# Altium integrated library Microchip I2C Serial EEPROM.IntLib: 1069 symbols (part 12 of 28)
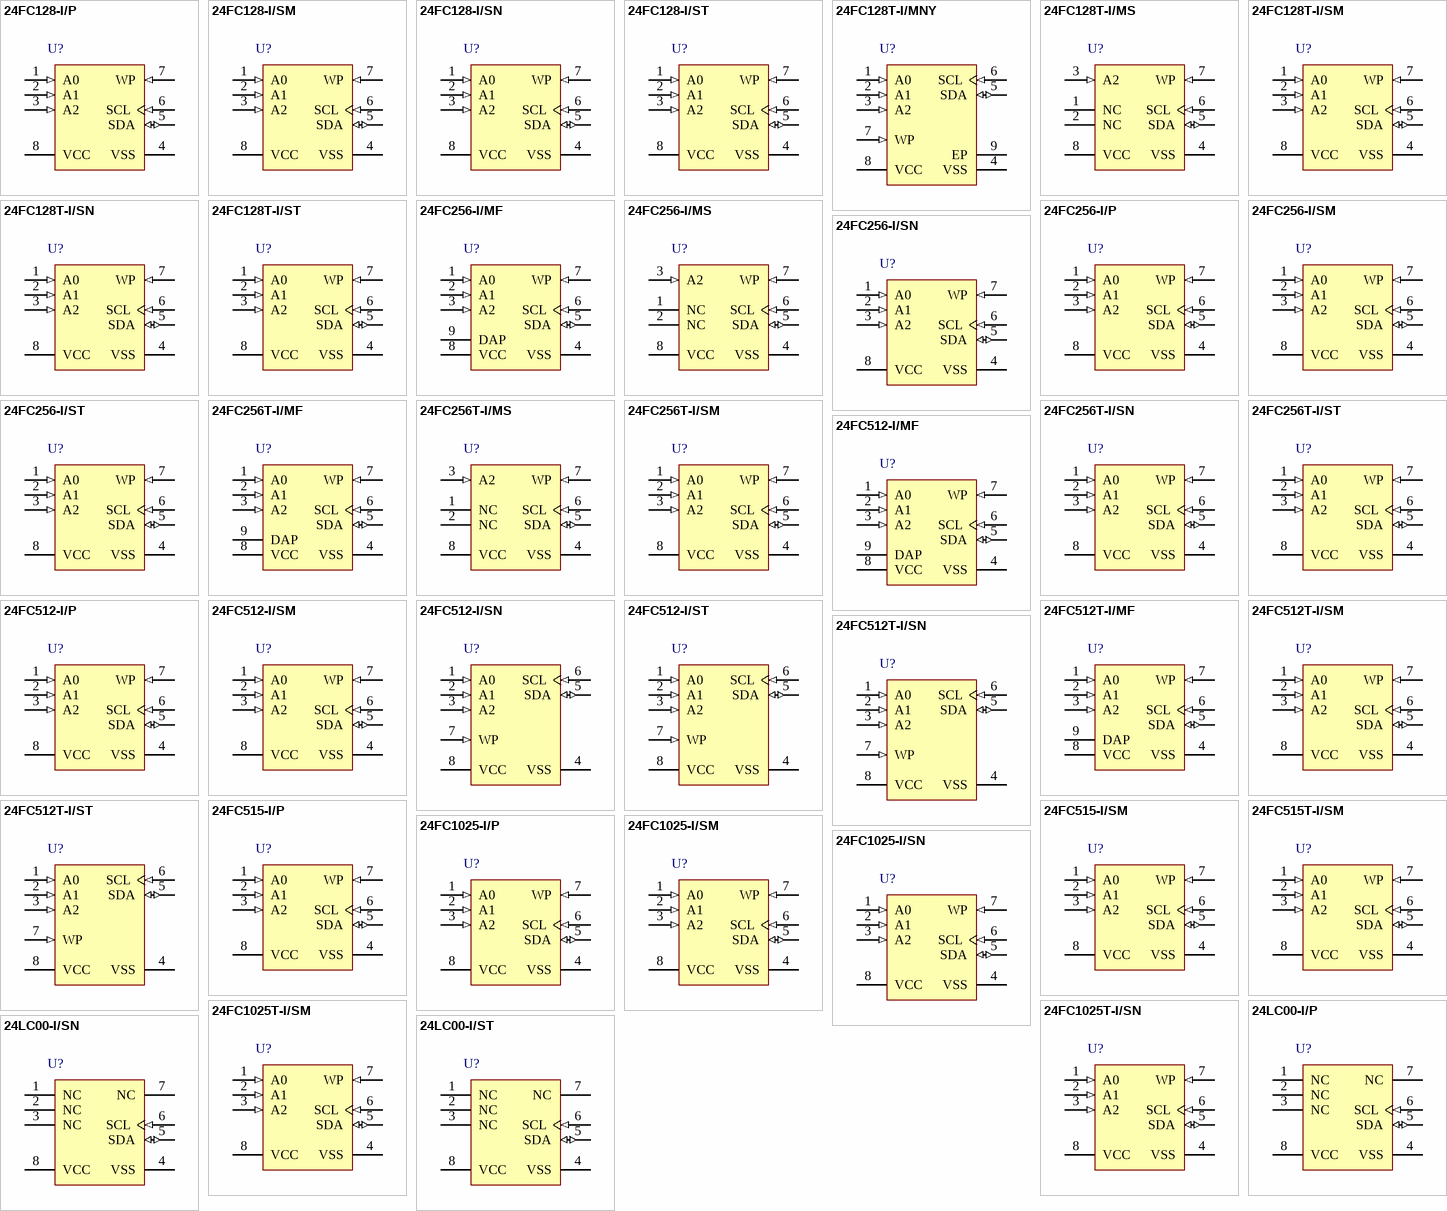
[diagram p37: symbols 24FC128-I/P to 24LC00-I/ST]

## 24FC512-I/SM
designator U?
512Kbit, 1MHz, 2.5V, I2C Serial EEPROM, 8-Pin SOIC 208mil, Industrial Temperature; Manufacturer: Microchip; PartNumber: 24FC512-I/SM; DatasheetVersion: revJ, Jul-2008; PackageVersion: revBB, Aug-2009; PackageReference: SOIJ-SM8; PackageDescription: 8-Lead Plastic Small Outline (SM) - Medium, 5.28 mm Body [SOIJ]; Supplier 1: Digi-Key; Supplier Part Number 1: 24FC512-I/SM-ND; Supplier 2: Newark; Supplier Part Number 2: 92C7013; Supplier 3: Mouser; Supplier Part Number 3: 579-24FC512-I/SM; Mounting Technology: Surface Mount; ComponentLink1Description: Manufacturer URL; ComponentLink1URL: http://www.microchip.com/; ComponentLink2Description: Datasheet; ComponentLink2URL: http://ww1.microchip.com/downloads/en/DeviceDoc/21754J.pdf; ComponentLink3Description: Package Specification; ComponentLink3URL: http://www.microchip.com/stellent/groups/techpub_sg/documents/packagingspec/en012702.pdf
footprint SOIJ-SM8_N (SOP, 8-Leads, Body 5.2x5.2mm, Pitch 1.27mm, IPC Medium Density)
footprint SOIJ-SM8_L (SOP, 8-Leads, Body 5.2x5.2mm, Pitch 1.27mm, IPC High Density)
footprint SOIJ-SM8_M (SOP, 8-Leads, Body 5.2x5.2mm, Pitch 1.27mm, IPC Low Density)
pins: 1 A0 (in), 2 A1 (in), 3 A2 (in), 4 VSS (power), 5 SDA (io), 6 SCL (in), 7 WP (in), 8 VCC (power)

## 24FC512-I/SN
designator U?
512K bits I2C™ Serial EEPROM, 1.7 to 5.5 V, 1 MHz, -40 to 85 degC, 8-pin SOIC (SN8), Tube; Manufacturer: Microchip; PartNumber: 24FC512-I/SN; DatasheetVersion: Rev. M; PackageVersion: C04-057C; PackageReference: SOIC-SN8; PackageDescription: 8-Lead Plastic Small Outline, 4.9 x 3.9 mm Body, 1.27 mm Pitch; Supplier 1: Digi-Key; Supplier Part Number 1: 24FC512-I/SN-ND; Supplier 2: Newark; Supplier Part Number 2: 08R2176; Supplier 3: Mouser; Supplier Part Number 3: 579-24FC512-I/SN; Mounting Technology: Surface Mount; ComponentLink1Description: Manufacturer URL; ComponentLink1URL: http://www.microchip.com; ComponentLink2Description: Datasheet; ComponentLink2URL: http://ww1.microchip.com/downloads/en/DeviceDoc/21754M.pdf; ComponentLink3Description: Package Specification; ComponentLink3URL: http://www.microchip.com/stellent/groups/techpub_sg/documents/packagingspec/en012702.pdf; ComponentLink4Description: Product URL; ComponentLink4URL: http://www.microchip.com/24FC512
footprint MCHP-SOIC-SN8_N (SOIC, 8-Leads, Body 4.9x3.9mm, Pitch 1.27mm, IPC Medium Density)
footprint MCHP-SOIC-SN8_L (SOIC, 8-Leads, Body 4.9x3.9mm, Pitch 1.27mm, IPC High Density)
footprint MCHP-SOIC-SN8_M (SOIC, 8-Leads, Body 4.9x3.9mm, Pitch 1.27mm, IPC Low Density)
pins: 1 A0 (in) "User Configured Chip Select", 2 A1 (in) "User Configured Chip Select", 3 A2 (in) "User Configured Chip Select", 4 VSS (power) "Ground", 5 SDA (io) "Serial Data", 6 SCL (in) "Serial Clock", 7 WP (in) "Write-Protect Input", 8 VCC (power) "+1.7V to 5.5V"

## 24FC512-I/ST
designator U?
512K bits I2C™ Serial EEPROM, 1.7 to 5.5 V, 1 MHz, -40 to 85 degC, 8-pin TSSOP (ST8), Tube; Manufacturer: Microchip; PartNumber: 24FC512-I/ST; DatasheetVersion: Rev. M; PackageVersion: C04-086B; PackageReference: TSSOP-ST8; PackageDescription: 8-Lead Plastic Thin Shrink Small Outline, 3 x 4.4 mm Body, 0.65 mm Pitch; Supplier 1: Digi-Key; Supplier Part Number 1: 24FC512-I/ST-ND; Supplier 2: Newark; Supplier Part Number 2: 08R2177; Supplier 3: Mouser; Supplier Part Number 3: 579-24FC512-I/ST; Mounting Technology: Surface Mount; ComponentLink1Description: Manufacturer URL; ComponentLink1URL: http://www.microchip.com; ComponentLink2Description: Datasheet; ComponentLink2URL: http://ww1.microchip.com/downloads/en/DeviceDoc/21754M.pdf; ComponentLink3Description: Package Specification; ComponentLink3URL: http://www.microchip.com/stellent/groups/techpub_sg/documents/packagingspec/en012702.pdf; ComponentLink4Description: Product URL; ComponentLink4URL: http://www.microchip.com/24FC512
footprint MCHP-TSSOP-ST8_N (SOP, 8-Leads, Body 4.4x3mm, Pitch 0.65mm, IPC Medium Density)
footprint MCHP-TSSOP-ST8_L (SOP, 8-Leads, Body 4.4x3mm, Pitch 0.65mm, IPC High Density)
footprint MCHP-TSSOP-ST8_M (SOP, 8-Leads, Body 4.4x3mm, Pitch 0.65mm, IPC Low Density)
pins: 1 A0 (in) "User Configured Chip Select", 2 A1 (in) "User Configured Chip Select", 3 A2 (in) "User Configured Chip Select", 4 VSS (power) "Ground", 5 SDA (io) "Serial Data", 6 SCL (in) "Serial Clock", 7 WP (in) "Write-Protect Input", 8 VCC (power) "+1.7V to 5.5V"

## 24FC512T-I/MF
designator U?
512Kbit, 1MHz, 2.5V, I2C Serial EEPROM, 8-Pin DFN, Industrial Temperature, Tape and Reel; Manufacturer: Microchip; PartNumber: 24FC512T-I/MF; DatasheetVersion: revJ, Jul-2008; PackageVersion: revBB, Aug-2009; PackageReference: DFNS-MF8; PackageDescription: 8-Lead Plastic Dual Flat, No Lead Package (MF) - 6x5 mm Body [DFN-S]; Supplier 1: Digi-Key; Supplier Part Number 1: 24FC512T-I/MF-ND; Supplier 2: Newark; Supplier Part Number 2: 03H7529; Supplier 3: Mouser; Supplier Part Number 3: 579-24FC512T-I/MF; Mounting Technology: Surface Mount; ComponentLink1Description: Manufacturer URL; ComponentLink1URL: http://www.microchip.com/; ComponentLink2Description: Datasheet; ComponentLink2URL: http://ww1.microchip.com/downloads/en/DeviceDoc/21754J.pdf; ComponentLink3Description: Package Specification; ComponentLink3URL: http://www.microchip.com/stellent/groups/techpub_sg/documents/packagingspec/en012702.pdf
footprint DFNS-MF8 (SON, 8-Leads, Body 5x6mm, Pitch 1.27mm, Microchip Recommended)
pins: 1 A0 (in), 2 A1 (in), 3 A2 (in), 4 VSS (power), 5 SDA (io), 6 SCL (in), 7 WP (in), 8 VCC (power), 9 DAP (power)

## 24FC512T-I/SM
designator U?
512Kbit, 1MHz, 2.5V, I2C Serial EEPROM, 8-Pin SOIC 208mil, Industrial Temperature, Tape and Reel; Manufacturer: Microchip; PartNumber: 24FC512T-I/SM; DatasheetVersion: revJ, Jul-2008; PackageVersion: revBB, Aug-2009; PackageReference: SOIJ-SM8; PackageDescription: 8-Lead Plastic Small Outline (SM) - Medium, 5.28 mm Body [SOIJ]; Supplier 1: Digi-Key; Supplier Part Number 1: 24FC512T-I/SM-ND; Supplier 2: Mouser; Supplier Part Number 2: 579-24FC512T-I/SM; Mounting Technology: Surface Mount; ComponentLink1Description: Manufacturer URL; ComponentLink1URL: http://www.microchip.com/; ComponentLink2Description: Datasheet; ComponentLink2URL: http://ww1.microchip.com/downloads/en/DeviceDoc/21754J.pdf; ComponentLink3Description: Package Specification; ComponentLink3URL: http://www.microchip.com/stellent/groups/techpub_sg/documents/packagingspec/en012702.pdf
footprint SOIJ-SM8_N (SOP, 8-Leads, Body 5.2x5.2mm, Pitch 1.27mm, IPC Medium Density)
footprint SOIJ-SM8_L (SOP, 8-Leads, Body 5.2x5.2mm, Pitch 1.27mm, IPC High Density)
footprint SOIJ-SM8_M (SOP, 8-Leads, Body 5.2x5.2mm, Pitch 1.27mm, IPC Low Density)
pins: 1 A0 (in), 2 A1 (in), 3 A2 (in), 4 VSS (power), 5 SDA (io), 6 SCL (in), 7 WP (in), 8 VCC (power)

## 24FC512T-I/SN
designator U?
512K bits I2C™ Serial EEPROM, 1.7 to 5.5 V, 1 MHz, -40 to 85 degC, 8-pin SOIC (SN8), Tape and Reel; Manufacturer: Microchip; PartNumber: 24FC512T-I/SN; DatasheetVersion: Rev. M; PackageVersion: C04-057C; PackageReference: SOIC-SN8; PackageDescription: 8-Lead Plastic Small Outline, 4.9 x 3.9 mm Body, 1.27 mm Pitch; Supplier 1: Digi-Key; Supplier Part Number 1: 24FC512T-I/SN-ND; Supplier 2: Mouser; Supplier Part Number 2: 579-24FC512T-I/SN; Mounting Technology: Surface Mount; ComponentLink1Description: Manufacturer URL; ComponentLink1URL: http://www.microchip.com; ComponentLink2Description: Datasheet; ComponentLink2URL: http://ww1.microchip.com/downloads/en/DeviceDoc/21754M.pdf; ComponentLink3Description: Package Specification; ComponentLink3URL: http://www.microchip.com/stellent/groups/techpub_sg/documents/packagingspec/en012702.pdf; ComponentLink4Description: Product URL; ComponentLink4URL: http://www.microchip.com/24FC512
footprint MCHP-SOIC-SN8_N (SOIC, 8-Leads, Body 4.9x3.9mm, Pitch 1.27mm, IPC Medium Density)
footprint MCHP-SOIC-SN8_L (SOIC, 8-Leads, Body 4.9x3.9mm, Pitch 1.27mm, IPC High Density)
footprint MCHP-SOIC-SN8_M (SOIC, 8-Leads, Body 4.9x3.9mm, Pitch 1.27mm, IPC Low Density)
pins: 1 A0 (in) "User Configured Chip Select", 2 A1 (in) "User Configured Chip Select", 3 A2 (in) "User Configured Chip Select", 4 VSS (power) "Ground", 5 SDA (io) "Serial Data", 6 SCL (in) "Serial Clock", 7 WP (in) "Write-Protect Input", 8 VCC (power) "+1.7V to 5.5V"

## 24FC512T-I/ST
designator U?
512K bits I2C™ Serial EEPROM, 1.7 to 5.5 V, 1 MHz, -40 to 85 degC, 8-pin TSSOP (ST8), Tape and Reel; Manufacturer: Microchip; PartNumber: 24FC512T-I/ST; DatasheetVersion: Rev. M; PackageVersion: C04-086B; PackageReference: TSSOP-ST8; PackageDescription: 8-Lead Plastic Thin Shrink Small Outline, 3 x 4.4 mm Body, 0.65 mm Pitch; Supplier 1: Digi-Key; Supplier Part Number 1: 24FC512T-I/ST-ND; Supplier 2: Mouser; Supplier Part Number 2: 579-24FC512T-I/ST; Mounting Technology: Surface Mount; ComponentLink1Description: Manufacturer URL; ComponentLink1URL: http://www.microchip.com; ComponentLink2Description: Datasheet; ComponentLink2URL: http://ww1.microchip.com/downloads/en/DeviceDoc/21754M.pdf; ComponentLink3Description: Package Specification; ComponentLink3URL: http://www.microchip.com/stellent/groups/techpub_sg/documents/packagingspec/en012702.pdf; ComponentLink4Description: Product URL; ComponentLink4URL: http://www.microchip.com/24FC512
footprint MCHP-TSSOP-ST8_N (SOP, 8-Leads, Body 4.4x3mm, Pitch 0.65mm, IPC Medium Density)
footprint MCHP-TSSOP-ST8_L (SOP, 8-Leads, Body 4.4x3mm, Pitch 0.65mm, IPC High Density)
footprint MCHP-TSSOP-ST8_M (SOP, 8-Leads, Body 4.4x3mm, Pitch 0.65mm, IPC Low Density)
pins: 1 A0 (in) "User Configured Chip Select", 2 A1 (in) "User Configured Chip Select", 3 A2 (in) "User Configured Chip Select", 4 VSS (power) "Ground", 5 SDA (io) "Serial Data", 6 SCL (in) "Serial Clock", 7 WP (in) "Write-Protect Input", 8 VCC (power) "+1.7V to 5.5V"

## 24FC515-I/P
designator U?
512Kbit, 1MHz, 2.5V, I2C Serial EEPROM, 8-Pin PDIP, Industrial Temperature; Manufacturer: Microchip; PartNumber: 24FC515-I/P; DatasheetVersion: revG, Jul-2008; PackageVersion: revBB, Aug-2009; PackageReference: PDIP300-P8; PackageDescription: 8-Lead Plastic Dual In-Line (P) - 300 mil Body [PDIP]; Supplier 1: Digi-Key; Supplier Part Number 1: 24FC515-I/P-ND; Supplier 2: Newark; Supplier Part Number 2: 69K7666; Supplier 3: Mouser; Supplier Part Number 3: 579-24FC515-I/P; Mounting Technology: Through Hole; Code_JEDEC: MS-001; ComponentLink1Description: Manufacturer URL; ComponentLink1URL: http://www.microchip.com/; ComponentLink2Description: Datasheet; ComponentLink2URL: http://ww1.microchip.com/downloads/en/DeviceDoc/21673G.pdf; ComponentLink3Description: Package Specification; ComponentLink3URL: http://www.microchip.com/stellent/groups/techpub_sg/documents/packagingspec/en012702.pdf
footprint PDIP300-P8 (DIP, 8-Leads, Row Spacing 7.62mm, Pitch 2.54mm, Body 9.5x6.6mm)
pins: 1 A0 (in), 2 A1 (in), 3 A2 (in), 4 VSS (power), 5 SDA (io), 6 SCL (in), 7 WP (in), 8 VCC (power)

## 24FC515-I/SM
designator U?
512Kbit, 1MHz, 2.5V, I2C Serial EEPROM, 8-Pin SOIC 208mil, Industrial Temperature; Manufacturer: Microchip; PartNumber: 24FC515-I/SM; DatasheetVersion: revG, Jul-2008; PackageVersion: revBB, Aug-2009; PackageReference: SOIJ-SM8; PackageDescription: 8-Lead Plastic Small Outline (SM) - Medium, 5.28 mm Body [SOIJ]; Supplier 1: Digi-Key; Supplier Part Number 1: 24FC515-I/SM-ND; Supplier 2: Newark; Supplier Part Number 2: 92C7019; Supplier 3: Mouser; Supplier Part Number 3: 579-24FC515-I/SM; Mounting Technology: Surface Mount; ComponentLink1Description: Manufacturer URL; ComponentLink1URL: http://www.microchip.com/; ComponentLink2Description: Datasheet; ComponentLink2URL: http://ww1.microchip.com/downloads/en/DeviceDoc/21673G.pdf; ComponentLink3Description: Package Specification; ComponentLink3URL: http://www.microchip.com/stellent/groups/techpub_sg/documents/packagingspec/en012702.pdf
footprint SOIJ-SM8_N (SOP, 8-Leads, Body 5.2x5.2mm, Pitch 1.27mm, IPC Medium Density)
footprint SOIJ-SM8_L (SOP, 8-Leads, Body 5.2x5.2mm, Pitch 1.27mm, IPC High Density)
footprint SOIJ-SM8_M (SOP, 8-Leads, Body 5.2x5.2mm, Pitch 1.27mm, IPC Low Density)
pins: 1 A0 (in), 2 A1 (in), 3 A2 (in), 4 VSS (power), 5 SDA (io), 6 SCL (in), 7 WP (in), 8 VCC (power)

## 24FC515T-I/SM
designator U?
512Kbit, 1MHz, 2.5V, I2C Serial EEPROM, 8-Pin SOIC 208mil, Industrial Temperature, Tape and Reel; Manufacturer: Microchip; PartNumber: 24FC515T-I/SM; DatasheetVersion: revG, Jul-2008; PackageVersion: revBB, Aug-2009; PackageReference: SOIJ-SM8; PackageDescription: 8-Lead Plastic Small Outline (SM) - Medium, 5.28 mm Body [SOIJ]; Supplier 1: Digi-Key; Supplier Part Number 1: 24FC515T-I/SM-ND; Supplier 2: Mouser; Supplier Part Number 2: 579-24FC515T-I/SM; Mounting Technology: Surface Mount; ComponentLink1Description: Manufacturer URL; ComponentLink1URL: http://www.microchip.com/; ComponentLink2Description: Datasheet; ComponentLink2URL: http://ww1.microchip.com/downloads/en/DeviceDoc/21673G.pdf; ComponentLink3Description: Package Specification; ComponentLink3URL: http://www.microchip.com/stellent/groups/techpub_sg/documents/packagingspec/en012702.pdf
footprint SOIJ-SM8_N (SOP, 8-Leads, Body 5.2x5.2mm, Pitch 1.27mm, IPC Medium Density)
footprint SOIJ-SM8_L (SOP, 8-Leads, Body 5.2x5.2mm, Pitch 1.27mm, IPC High Density)
footprint SOIJ-SM8_M (SOP, 8-Leads, Body 5.2x5.2mm, Pitch 1.27mm, IPC Low Density)
pins: 1 A0 (in), 2 A1 (in), 3 A2 (in), 4 VSS (power), 5 SDA (io), 6 SCL (in), 7 WP (in), 8 VCC (power)

## 24FC1025-I/P
designator U?
1 Mbit, 1MHz, 2.5V, I2C Serial EEPROM, 8-Pin PDIP, Industrial Temperature; Manufacturer: Microchip; PartNumber: 24FC1025-I/P; DatasheetVersion: revF, Oct-2008; PackageVersion: revBB, Aug-2009; PackageReference: PDIP300-P8; PackageDescription: 8-Lead Plastic Dual In-Line (P) - 300 mil Body [PDIP]; Supplier 1: Digi-Key; Supplier Part Number 1: 24FC1025-I/P-ND; Supplier 2: Newark; Supplier Part Number 2: 56K7664; Supplier 3: Mouser; Supplier Part Number 3: 579-24FC1025-I/P; Mounting Technology: Through Hole; Code_JEDEC: MS-001; ComponentLink1Description: Manufacturer URL; ComponentLink1URL: http://www.microchip.com/; ComponentLink2Description: Datasheet; ComponentLink2URL: http://ww1.microchip.com/downloads/en/DeviceDoc/21941F.pdf; ComponentLink3Description: Package Specification; ComponentLink3URL: http://www.microchip.com/stellent/groups/techpub_sg/documents/packagingspec/en012702.pdf
footprint PDIP300-P8 (DIP, 8-Leads, Row Spacing 7.62mm, Pitch 2.54mm, Body 9.5x6.6mm)
pins: 1 A0 (in), 2 A1 (in), 3 A2 (in), 4 VSS (power), 5 SDA (io), 6 SCL (in), 7 WP (in), 8 VCC (power)

## 24FC1025-I/SM
designator U?
1 Mbit, 1MHz, 2.5V, I2C Serial EEPROM, 8-Pin SOIC 208mil, Industrial Temperature; Manufacturer: Microchip; PartNumber: 24FC1025-I/SM; DatasheetVersion: revF, Oct-2008; PackageVersion: revBB, Aug-2009; PackageReference: SOIJ-SM8; PackageDescription: 8-Lead Plastic Small Outline (SM) - Medium, 5.28 mm Body [SOIJ]; Supplier 1: Digi-Key; Supplier Part Number 1: 24FC1025-I/SM-ND; Supplier 2: Farnell; Supplier Part Number 2: 1296568; Supplier 3: Newark; Supplier Part Number 3: 56K7665; Supplier 4: Mouser; Supplier Part Number 4: 579-24FC1025-I/SM; Mounting Technology: Surface Mount; ComponentLink1Description: Manufacturer URL; ComponentLink1URL: http://www.microchip.com/; ComponentLink2Description: Datasheet; ComponentLink2URL: http://ww1.microchip.com/downloads/en/DeviceDoc/21941F.pdf; ComponentLink3Description: Package Specification; ComponentLink3URL: http://www.microchip.com/stellent/groups/techpub_sg/documents/packagingspec/en012702.pdf
footprint SOIJ-SM8_N (SOP, 8-Leads, Body 5.2x5.2mm, Pitch 1.27mm, IPC Medium Density)
footprint SOIJ-SM8_L (SOP, 8-Leads, Body 5.2x5.2mm, Pitch 1.27mm, IPC High Density)
footprint SOIJ-SM8_M (SOP, 8-Leads, Body 5.2x5.2mm, Pitch 1.27mm, IPC Low Density)
pins: 1 A0 (in), 2 A1 (in), 3 A2 (in), 4 VSS (power), 5 SDA (io), 6 SCL (in), 7 WP (in), 8 VCC (power)

## 24FC1025-I/SN
designator U?
1 Mbit, 1MHz, 2.5V, 8-Pin SOIC 150mil, Industrial Temperature; Manufacturer: Microchip; PartNumber: 24FC1025-I/SN; DatasheetVersion: revF, Oct-2008; PackageVersion: revBB, Aug-2009; PackageReference: SOIC-SN8; PackageDescription: 8-Lead Plastic Small Outline (SN) - Narrow, 3.90mm Body [SOIC]; Supplier 1: Digi-Key; Supplier Part Number 1: 24FC1025-I/SN-ND; Supplier 2: Newark; Supplier Part Number 2: 26R1320; Supplier 3: Mouser; Supplier Part Number 3: 579-24FC1025-I/SN; Mounting Technology: Surface Mount; Code_JEDEC: MS-012; Code_IPC: SOIC127P600-8; ComponentLink1Description: Manufacturer URL; ComponentLink1URL: http://www.microchip.com/; ComponentLink2Description: Datasheet; ComponentLink2URL: http://ww1.microchip.com/downloads/en/DeviceDoc/21941F.pdf; ComponentLink3Description: Package Specification; ComponentLink3URL: http://www.microchip.com/stellent/groups/techpub_sg/documents/packagingspec/en012702.pdf
footprint SOIC-SN8_N (SOIC, 8-Leads, Body 4.9x3.8mm, Pitch 1.27mm, IPC Medium Density)
footprint SOIC-SN8_L (SOIC, 8-Leads, Body 4.9x3.8mm, Pitch 1.27mm, IPC High Density)
footprint SOIC-SN8_M (SOIC, 8-Leads, Body 4.9x3.8mm, Pitch 1.27mm, IPC Low Density)
pins: 1 A0 (in), 2 A1 (in), 3 A2 (in), 4 VSS (power), 5 SDA (io), 6 SCL (in), 7 WP (in), 8 VCC (power)

## 24FC1025T-I/SM
designator U?
1 Mbit, 1MHz, 2.5V, I2C Serial EEPROM, 8-Pin SOIC 208mil, Industrial Temperature, Tape and Reel; Manufacturer: Microchip; PartNumber: 24FC1025T-I/SM; DatasheetVersion: revF, Oct-2008; PackageVersion: revBB, Aug-2009; PackageReference: SOIJ-SM8; PackageDescription: 8-Lead Plastic Small Outline (SM) - Medium, 5.28 mm Body [SOIJ]; Supplier 1: Digi-Key; Supplier Part Number 1: 24FC1025T-I/SMTR-ND; Supplier 2: Digi-Key; Supplier Part Number 2: 24FC1025T-I/SMCT-ND; Supplier 3: Digi-Key; Supplier Part Number 3: 24FC1025T-I/SMDKR-ND; Supplier 4: Newark; Supplier Part Number 4: 56K7666; Supplier 5: Mouser; Supplier Part Number 5: 579-24FC1025T-I/SM; Mounting Technology: Surface Mount; ComponentLink1Description: Manufacturer URL; ComponentLink1URL: http://www.microchip.com/; ComponentLink2Description: Datasheet; ComponentLink2URL: http://ww1.microchip.com/downloads/en/DeviceDoc/21941F.pdf; ComponentLink3Description: Package Specification; ComponentLink3URL: http://www.microchip.com/stellent/groups/techpub_sg/documents/packagingspec/en012702.pdf
footprint SOIJ-SM8_N (SOP, 8-Leads, Body 5.2x5.2mm, Pitch 1.27mm, IPC Medium Density)
footprint SOIJ-SM8_L (SOP, 8-Leads, Body 5.2x5.2mm, Pitch 1.27mm, IPC High Density)
footprint SOIJ-SM8_M (SOP, 8-Leads, Body 5.2x5.2mm, Pitch 1.27mm, IPC Low Density)
pins: 1 A0 (in), 2 A1 (in), 3 A2 (in), 4 VSS (power), 5 SDA (io), 6 SCL (in), 7 WP (in), 8 VCC (power)

## 24FC1025T-I/SN
designator U?
1 Mbit, 1MHz, 2.5V, 8-Pin SOIC 150mil, Industrial Temperature, Tape and Reel; Manufacturer: Microchip; PartNumber: 24FC1025T-I/SN; DatasheetVersion: revF, Oct-2008; PackageVersion: revBB, Aug-2009; PackageReference: SOIC-SN8; PackageDescription: 8-Lead Plastic Small Outline (SN) - Narrow, 3.90mm Body [SOIC]; Supplier 1: Digi-Key; Supplier Part Number 1: 24FC1025T-I/SNTR-ND; Supplier 2: Digi-Key; Supplier Part Number 2: 24FC1025T-I/SNCT-ND; Supplier 3: Digi-Key; Supplier Part Number 3: 24FC1025T-I/SNDKR-ND; Supplier 4: Newark; Supplier Part Number 4: 26R1321; Supplier 5: Mouser; Supplier Part Number 5: 579-24FC1025T-I/SN; Mounting Technology: Surface Mount; Code_JEDEC: MS-012; Code_IPC: SOIC127P600-8; ComponentLink1Description: Manufacturer URL; ComponentLink1URL: http://www.microchip.com/; ComponentLink2Description: Datasheet; ComponentLink2URL: http://ww1.microchip.com/downloads/en/DeviceDoc/21941F.pdf; ComponentLink3Description: Package Specification; ComponentLink3URL: http://www.microchip.com/stellent/groups/techpub_sg/documents/packagingspec/en012702.pdf
footprint SOIC-SN8_N (SOIC, 8-Leads, Body 4.9x3.8mm, Pitch 1.27mm, IPC Medium Density)
footprint SOIC-SN8_L (SOIC, 8-Leads, Body 4.9x3.8mm, Pitch 1.27mm, IPC High Density)
footprint SOIC-SN8_M (SOIC, 8-Leads, Body 4.9x3.8mm, Pitch 1.27mm, IPC Low Density)
pins: 1 A0 (in), 2 A1 (in), 3 A2 (in), 4 VSS (power), 5 SDA (io), 6 SCL (in), 7 WP (in), 8 VCC (power)

## 24LC00-I/P
designator U?
128-Bit, 400kHz, 2.5V, I2C Bus Serial EEPROM, 8-Pin PDIP, Industrial Temperature; Manufacturer: Microchip; PartNumber: 24LC00-I/P; DatasheetVersion: revG, Mar-2007; PackageVersion: revBB, Aug-2009; PackageReference: PDIP300-P8; PackageDescription: 8-Lead Plastic Dual In-Line (P) - 300 mil Body [PDIP]; Supplier 1: Digi-Key; Supplier Part Number 1: 24LC00-I/P-ND; Supplier 2: Farnell; Supplier Part Number 2: 1331308; Supplier 3: Newark; Supplier Part Number 3: 35M0723; Supplier 4: Newark; Supplier Part Number 4: 12C1983; Supplier 5: Mouser; Supplier Part Number 5: 579-24LC00-I/P; Mounting Technology: Through Hole; Code_JEDEC: MS-001; ComponentLink1Description: Manufacturer URL; ComponentLink1URL: http://www.microchip.com/; ComponentLink2Description: Datasheet; ComponentLink2URL: http://ww1.microchip.com/downloads/en/DeviceDoc/21178G.pdf; ComponentLink3Description: Package Specification; ComponentLink3URL: http://www.microchip.com/stellent/groups/techpub_sg/documents/packagingspec/en012702.pdf
footprint PDIP300-P8 (DIP, 8-Leads, Row Spacing 7.62mm, Pitch 2.54mm, Body 9.5x6.6mm)
pins: 1 NC, 2 NC, 3 NC, 4 VSS (power), 5 SDA (io), 6 SCL (in), 7 NC, 8 VCC (power)

## 24LC00-I/SN
designator U?
128-Bit, 400kHz, 2.5V, I2C Bus Serial EEPROM, 8-Pin SOIC 150mil, Industrial Temperature; Manufacturer: Microchip; PartNumber: 24LC00-I/SN; DatasheetVersion: revG, Mar-2007; PackageVersion: revBB, Aug-2009; PackageReference: SOIC-SN8; PackageDescription: 8-Lead Plastic Small Outline (SN) - Narrow, 3.90mm Body [SOIC]; Supplier 1: Digi-Key; Supplier Part Number 1: 24LC00-I/SN-ND; Supplier 2: Newark; Supplier Part Number 2: 92C7063; Supplier 3: Mouser; Supplier Part Number 3: 579-24LC00-I/SN; Mounting Technology: Surface Mount; Code_JEDEC: MS-012; Code_IPC: SOIC127P600-8; ComponentLink1Description: Manufacturer URL; ComponentLink1URL: http://www.microchip.com/; ComponentLink2Description: Datasheet; ComponentLink2URL: http://ww1.microchip.com/downloads/en/DeviceDoc/21178G.pdf; ComponentLink3Description: Package Specification; ComponentLink3URL: http://www.microchip.com/stellent/groups/techpub_sg/documents/packagingspec/en012702.pdf
footprint SOIC-SN8_N (SOIC, 8-Leads, Body 4.9x3.8mm, Pitch 1.27mm, IPC Medium Density)
footprint SOIC-SN8_L (SOIC, 8-Leads, Body 4.9x3.8mm, Pitch 1.27mm, IPC High Density)
footprint SOIC-SN8_M (SOIC, 8-Leads, Body 4.9x3.8mm, Pitch 1.27mm, IPC Low Density)
pins: 1 NC, 2 NC, 3 NC, 4 VSS (power), 5 SDA (io), 6 SCL (in), 7 NC, 8 VCC (power)

## 24LC00-I/ST
designator U?
128-Bit, 400kHz, 2.5V, I2C Bus Serial EEPROM, 8-Pin TSSOP, Industrial Temperature; Manufacturer: Microchip; PartNumber: 24LC00-I/ST; DatasheetVersion: revG, Mar-2007; PackageVersion: revBB, Aug-2009; PackageReference: TSSOP-ST8; PackageDescription: 8-Lead Plastic Thin Shrink Small Outline (ST) - 4.4mm Body [TSSOP]; Supplier 1: Digi-Key; Supplier Part Number 1: 24LC00-I/ST-ND; Supplier 2: Newark; Supplier Part Number 2: 96K4067; Supplier 3: Mouser; Supplier Part Number 3: 579-24LC00-I/ST; Mounting Technology: Surface Mount; Code_JEDEC: MO-153; ComponentLink1Description: Manufacturer URL; ComponentLink1URL: http://www.microchip.com/; ComponentLink2Description: Datasheet; ComponentLink2URL: http://ww1.microchip.com/downloads/en/DeviceDoc/21178G.pdf; ComponentLink3Description: Package Specification; ComponentLink3URL: http://www.microchip.com/stellent/groups/techpub_sg/documents/packagingspec/en012702.pdf
footprint TSSOP-ST8_N (TSOP, 8-Leads, Body 3x4.4mm, Pitch 0.65mm, IPC Medium Density)
footprint TSSOP-ST8_L (TSOP, 8-Leads, Body 3x4.4mm, Pitch 0.65mm, IPC High Density)
footprint TSSOP-ST8_M (TSOP, 8-Leads, Body 3x4.4mm, Pitch 0.65mm, IPC Low Density)
pins: 1 NC, 2 NC, 3 NC, 4 VSS (power), 5 SDA (io), 6 SCL (in), 7 NC, 8 VCC (power)

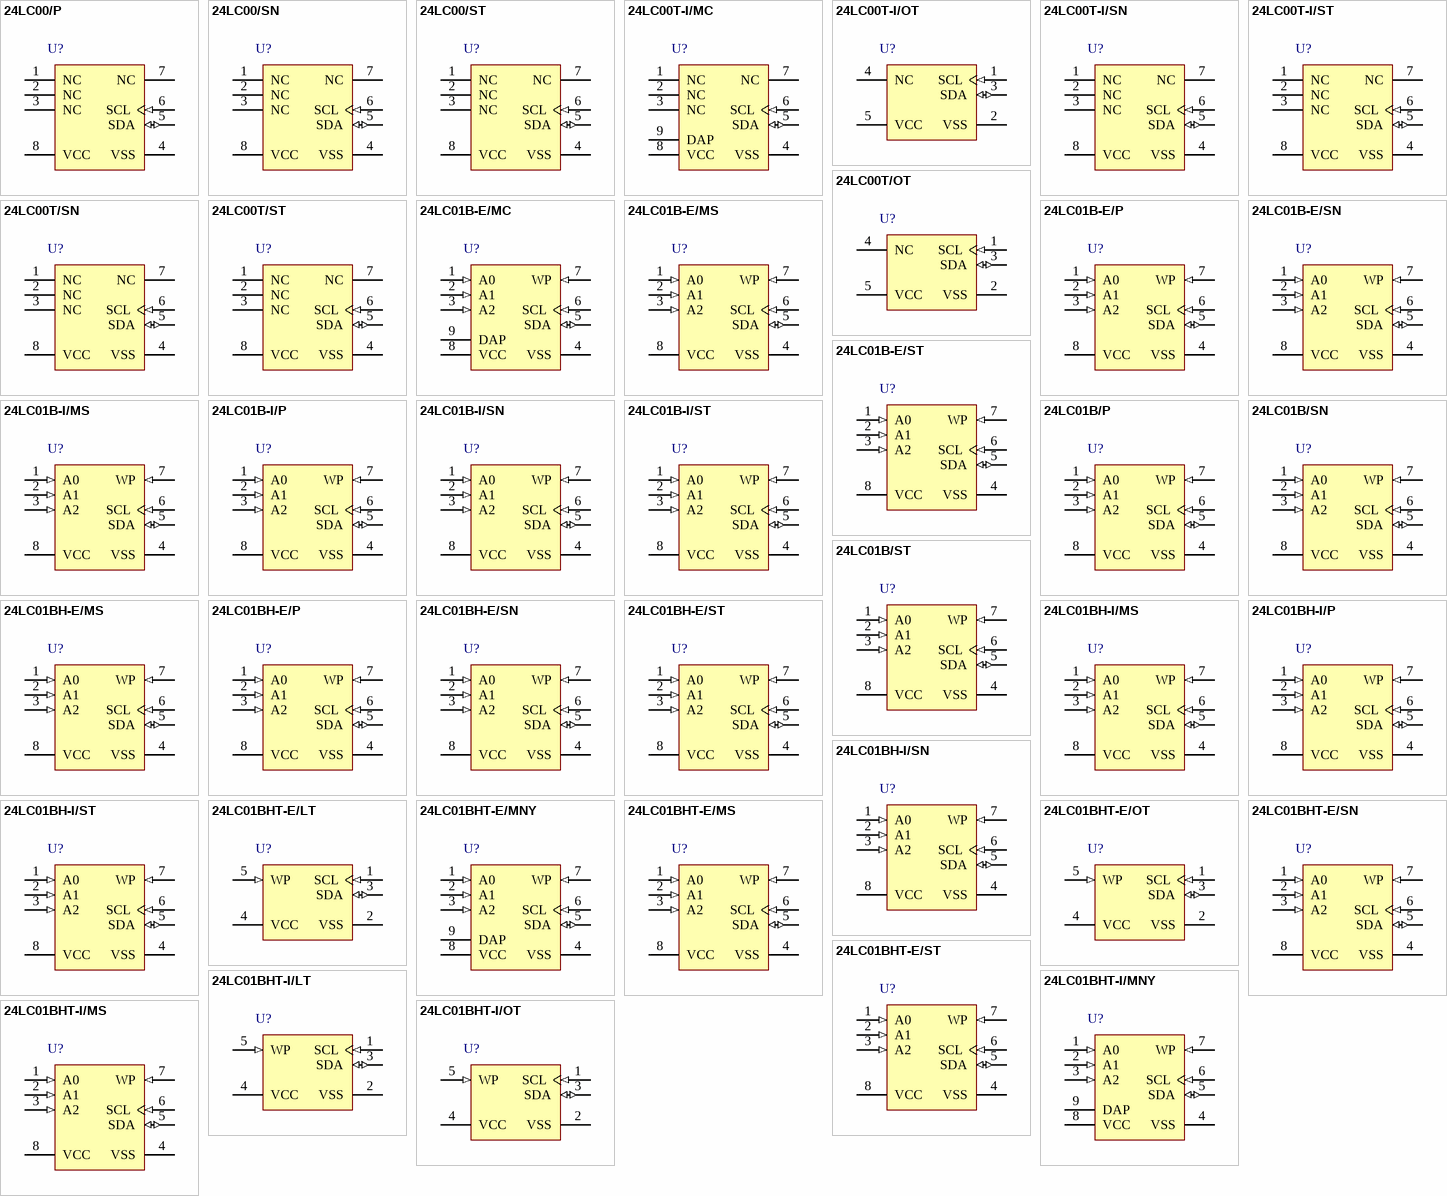
[diagram p11: symbols 24LC00/P to 24LC01BHT-I/OT]

## 24LC00/P
designator U?
128-Bit, 400kHz, 2.5V, I2C Bus Serial EEPROM, 8-Pin PDIP, Commercial Temperature; Manufacturer: Microchip; PartNumber: 24LC00/P; DatasheetVersion: revG, Mar-2007; PackageVersion: revBB, Aug-2009; PackageReference: PDIP300-P8; PackageDescription: 8-Lead Plastic Dual In-Line (P) - 300 mil Body [PDIP]; Supplier 1: Digi-Key; Supplier Part Number 1: 24LC00/P-ND; Supplier 2: Farnell; Supplier Part Number 2: 9757856; Supplier 3: Newark; Supplier Part Number 3: 96K4068; Supplier 4: Mouser; Supplier Part Number 4: 579-24LC00P; Mounting Technology: Through Hole; Code_JEDEC: MS-001; ComponentLink1Description: Manufacturer URL; ComponentLink1URL: http://www.microchip.com/; ComponentLink2Description: Datasheet; ComponentLink2URL: http://ww1.microchip.com/downloads/en/DeviceDoc/21178G.pdf; ComponentLink3Description: Package Specification; ComponentLink3URL: http://www.microchip.com/stellent/groups/techpub_sg/documents/packagingspec/en012702.pdf
footprint PDIP300-P8 (DIP, 8-Leads, Row Spacing 7.62mm, Pitch 2.54mm, Body 9.5x6.6mm)
pins: 1 NC, 2 NC, 3 NC, 4 VSS (power), 5 SDA (io), 6 SCL (in), 7 NC, 8 VCC (power)

## 24LC00/SN
designator U?
128-Bit, 400kHz, 2.5V, I2C Bus Serial EEPROM, 8-Pin SOIC 150mil, Commercial Temperature; Manufacturer: Microchip; PartNumber: 24LC00/SN; DatasheetVersion: revG, Mar-2007; PackageVersion: revBB, Aug-2009; PackageReference: SOIC-SN8; PackageDescription: 8-Lead Plastic Small Outline (SN) - Narrow, 3.90mm Body [SOIC]; Supplier 1: Digi-Key; Supplier Part Number 1: 24LC00/SN-ND; Supplier 2: Farnell; Supplier Part Number 2: 1137303; Supplier 3: Newark; Supplier Part Number 3: 69K7667; Supplier 4: Mouser; Supplier Part Number 4: 579-24LC00SN; Mounting Technology: Surface Mount; Code_JEDEC: MS-012; Code_IPC: SOIC127P600-8; ComponentLink1Description: Manufacturer URL; ComponentLink1URL: http://www.microchip.com/; ComponentLink2Description: Datasheet; ComponentLink2URL: http://ww1.microchip.com/downloads/en/DeviceDoc/21178G.pdf; ComponentLink3Description: Package Specification; ComponentLink3URL: http://www.microchip.com/stellent/groups/techpub_sg/documents/packagingspec/en012702.pdf
footprint SOIC-SN8_N (SOIC, 8-Leads, Body 4.9x3.8mm, Pitch 1.27mm, IPC Medium Density)
footprint SOIC-SN8_L (SOIC, 8-Leads, Body 4.9x3.8mm, Pitch 1.27mm, IPC High Density)
footprint SOIC-SN8_M (SOIC, 8-Leads, Body 4.9x3.8mm, Pitch 1.27mm, IPC Low Density)
pins: 1 NC, 2 NC, 3 NC, 4 VSS (power), 5 SDA (io), 6 SCL (in), 7 NC, 8 VCC (power)

## 24LC00/ST
designator U?
128-Bit, 400kHz, 2.5V, I2C Bus Serial EEPROM, 8-Pin TSSOP, Commercial Temperature; Manufacturer: Microchip; PartNumber: 24LC00/ST; DatasheetVersion: revG, Mar-2007; PackageVersion: revBB, Aug-2009; PackageReference: TSSOP-ST8; PackageDescription: 8-Lead Plastic Thin Shrink Small Outline (ST) - 4.4mm Body [TSSOP]; Supplier 1: Digi-Key; Supplier Part Number 1: 24LC00/ST-ND; Supplier 2: Mouser; Supplier Part Number 2: 579-24LC00/ST; Mounting Technology: Surface Mount; Code_JEDEC: MO-153; ComponentLink1Description: Manufacturer URL; ComponentLink1URL: http://www.microchip.com/; ComponentLink2Description: Datasheet; ComponentLink2URL: http://ww1.microchip.com/downloads/en/DeviceDoc/21178G.pdf; ComponentLink3Description: Package Specification; ComponentLink3URL: http://www.microchip.com/stellent/groups/techpub_sg/documents/packagingspec/en012702.pdf
footprint TSSOP-ST8_N (TSOP, 8-Leads, Body 3x4.4mm, Pitch 0.65mm, IPC Medium Density)
footprint TSSOP-ST8_L (TSOP, 8-Leads, Body 3x4.4mm, Pitch 0.65mm, IPC High Density)
footprint TSSOP-ST8_M (TSOP, 8-Leads, Body 3x4.4mm, Pitch 0.65mm, IPC Low Density)
pins: 1 NC, 2 NC, 3 NC, 4 VSS (power), 5 SDA (io), 6 SCL (in), 7 NC, 8 VCC (power)

## 24LC00T-I/MC
designator U?
128-Bit, 400kHz, 2.5V, I2C Bus Serial EEPROM, 8-Pin DFN, Industrial Temperature, Tape and Reel; Manufacturer: Microchip; PartNumber: 24LC00T-I/MC; DatasheetVersion: revG, Mar-2007; PackageVersion: revBB, Aug-2009; PackageReference: DFN-MC8; PackageDescription: 8-Lead Plastic Dual Flat, No Lead Package (MC) - 2x3x0.9mm Body [DFN]; Supplier 1: Digi-Key; Supplier Part Number 1: 24LC00T-I/MCTR-ND; Supplier 2: Digi-Key; Supplier Part Number 2: 24LC00T-I/MCCT-ND; Supplier 3: Digi-Key; Supplier Part Number 3: 24LC00T-I/MCDKR-ND; Supplier 4: Mouser; Supplier Part Number 4: 579-24LC00T-I/MC; Mounting Technology: Surface Mount; ComponentLink1Description: Manufacturer URL; ComponentLink1URL: http://www.microchip.com/; ComponentLink2Description: Datasheet; ComponentLink2URL: http://ww1.microchip.com/downloads/en/DeviceDoc/21178G.pdf; ComponentLink3Description: Package Specification; ComponentLink3URL: http://www.microchip.com/stellent/groups/techpub_sg/documents/packagingspec/en012702.pdf
footprint DFN-MC8 (SON, 8-Leads, Body 2x3mm, Pitch 0.5mm, Microchip Recommended)
pins: 1 NC, 2 NC, 3 NC, 4 VSS (power), 5 SDA (io), 6 SCL (in), 7 NC, 8 VCC (power), 9 DAP (power)

## 24LC00T-I/OT
designator U?
128-Bit, 400kHz, 2.5V, I2C Bus Serial EEPROM, 5-Pin SOT-23, Industrial Temperature, Tape and Reel; Manufacturer: Microchip; PartNumber: 24LC00T-I/OT; DatasheetVersion: revG, Mar-2007; PackageVersion: revBB, Aug-2009; PackageReference: SOT-23-OT5; PackageDescription: 5-Lead Plastic Small Outline Transistor (OT) [SOT-23]; Supplier 1: Digi-Key; Supplier Part Number 1: 24LC00T-I/OTTR-ND; Supplier 2: Digi-Key; Supplier Part Number 2: 24LC00T-I/OTCT-ND; Supplier 3: Digi-Key; Supplier Part Number 3: 24LC00T-I/OTDKR-ND; Supplier 4: Farnell; Supplier Part Number 4: 9757864; Supplier 5: Farnell; Supplier Part Number 5: 9757864RL; Supplier 6: Newark; Supplier Part Number 6: 62K0574; Supplier 7: Newark; Supplier Part Number 7: 73J4821; Supplier 8: Mouser; Supplier Part Number 8: 579-24LC00T-I/OT; Mounting Technology: Surface Mount; Code_IPC: SOT23-5; ComponentLink1Description: Manufacturer URL; ComponentLink1URL: http://www.microchip.com/; ComponentLink2Description: Datasheet; ComponentLink2URL: http://ww1.microchip.com/downloads/en/DeviceDoc/21178G.pdf; ComponentLink3Description: Package Specification; ComponentLink3URL: http://www.microchip.com/stellent/groups/techpub_sg/documents/packagingspec/en012702.pdf
footprint SOT-23-OT5_N (SOT23, 5-Leads, Body 2.9x1.6mm, Pitch 0.95mm, Lead Span 2.7mm, IPC Medium Density)
footprint SOT-23-OT5_L (SOT23, 5-Leads, Body 2.9x1.6mm, Pitch 0.95mm, Lead Span 2.7mm, IPC High Density)
footprint SOT-23-OT5_M (SOT23, 5-Leads, Body 2.9x1.6mm, Pitch 0.95mm, Lead Span 2.7mm, IPC Low Density)
pins: 1 SCL (in), 2 VSS (power), 3 SDA (io), 4 NC, 5 VCC (power)

## 24LC00T-I/SN
designator U?
128-Bit, 400kHz, 2.5V, I2C Bus Serial EEPROM, 8-Pin SOIC 150mil, Industrial Temperature, Tape and Reel; Manufacturer: Microchip; PartNumber: 24LC00T-I/SN; DatasheetVersion: revG, Mar-2007; PackageVersion: revBB, Aug-2009; PackageReference: SOIC-SN8; PackageDescription: 8-Lead Plastic Small Outline (SN) - Narrow, 3.90mm Body [SOIC]; Supplier 1: Digi-Key; Supplier Part Number 1: 24LC00T-I/SN-ND; Supplier 2: Mouser; Supplier Part Number 2: 579-24LC00T-I/SN; Mounting Technology: Surface Mount; Code_JEDEC: MS-012; Code_IPC: SOIC127P600-8; ComponentLink1Description: Manufacturer URL; ComponentLink1URL: http://www.microchip.com/; ComponentLink2Description: Datasheet; ComponentLink2URL: http://ww1.microchip.com/downloads/en/DeviceDoc/21178G.pdf; ComponentLink3Description: Package Specification; ComponentLink3URL: http://www.microchip.com/stellent/groups/techpub_sg/documents/packagingspec/en012702.pdf
footprint SOIC-SN8_N (SOIC, 8-Leads, Body 4.9x3.8mm, Pitch 1.27mm, IPC Medium Density)
footprint SOIC-SN8_L (SOIC, 8-Leads, Body 4.9x3.8mm, Pitch 1.27mm, IPC High Density)
footprint SOIC-SN8_M (SOIC, 8-Leads, Body 4.9x3.8mm, Pitch 1.27mm, IPC Low Density)
pins: 1 NC, 2 NC, 3 NC, 4 VSS (power), 5 SDA (io), 6 SCL (in), 7 NC, 8 VCC (power)

## 24LC00T-I/ST
designator U?
128-Bit, 400kHz, 2.5V, I2C Bus Serial EEPROM, 8-Pin TSSOP, Industrial Temperature, Tape and Reel; Manufacturer: Microchip; PartNumber: 24LC00T-I/ST; DatasheetVersion: revG, Mar-2007; PackageVersion: revBB, Aug-2009; PackageReference: TSSOP-ST8; PackageDescription: 8-Lead Plastic Thin Shrink Small Outline (ST) - 4.4mm Body [TSSOP]; Supplier 1: Digi-Key; Supplier Part Number 1: 24LC00T-I/ST-ND; Supplier 2: Mouser; Supplier Part Number 2: 579-24LC00T-I/ST; Mounting Technology: Surface Mount; Code_JEDEC: MO-153; ComponentLink1Description: Manufacturer URL; ComponentLink1URL: http://www.microchip.com/; ComponentLink2Description: Datasheet; ComponentLink2URL: http://ww1.microchip.com/downloads/en/DeviceDoc/21178G.pdf; ComponentLink3Description: Package Specification; ComponentLink3URL: http://www.microchip.com/stellent/groups/techpub_sg/documents/packagingspec/en012702.pdf
footprint TSSOP-ST8_N (TSOP, 8-Leads, Body 3x4.4mm, Pitch 0.65mm, IPC Medium Density)
footprint TSSOP-ST8_L (TSOP, 8-Leads, Body 3x4.4mm, Pitch 0.65mm, IPC High Density)
footprint TSSOP-ST8_M (TSOP, 8-Leads, Body 3x4.4mm, Pitch 0.65mm, IPC Low Density)
pins: 1 NC, 2 NC, 3 NC, 4 VSS (power), 5 SDA (io), 6 SCL (in), 7 NC, 8 VCC (power)

## 24LC00T/OT
designator U?
128-Bit, 400kHz, 2.5V, I2C Bus Serial EEPROM, 5-Pin SOT-23, Commercial Temperature, Tape and Reel; Manufacturer: Microchip; PartNumber: 24LC00T/OT; DatasheetVersion: revG, Mar-2007; PackageVersion: revBB, Aug-2009; PackageReference: SOT-23-OT5; PackageDescription: 5-Lead Plastic Small Outline Transistor (OT) [SOT-23]; Supplier 1: Digi-Key; Supplier Part Number 1: 24LC00T/OT-ND; Supplier 2: Newark; Supplier Part Number 2: 12C1987; Supplier 3: Mouser; Supplier Part Number 3: 579-24LC00T/OT; Mounting Technology: Surface Mount; Code_IPC: SOT23-5; ComponentLink1Description: Manufacturer URL; ComponentLink1URL: http://www.microchip.com/; ComponentLink2Description: Datasheet; ComponentLink2URL: http://ww1.microchip.com/downloads/en/DeviceDoc/21178G.pdf; ComponentLink3Description: Package Specification; ComponentLink3URL: http://www.microchip.com/stellent/groups/techpub_sg/documents/packagingspec/en012702.pdf
footprint SOT-23-OT5_N (SOT23, 5-Leads, Body 2.9x1.6mm, Pitch 0.95mm, Lead Span 2.7mm, IPC Medium Density)
footprint SOT-23-OT5_L (SOT23, 5-Leads, Body 2.9x1.6mm, Pitch 0.95mm, Lead Span 2.7mm, IPC High Density)
footprint SOT-23-OT5_M (SOT23, 5-Leads, Body 2.9x1.6mm, Pitch 0.95mm, Lead Span 2.7mm, IPC Low Density)
pins: 1 SCL (in), 2 VSS (power), 3 SDA (io), 4 NC, 5 VCC (power)

## 24LC00T/SN
designator U?
128-Bit, 400kHz, 2.5V, I2C Bus Serial EEPROM, 8-Pin SOIC 150mil, Commercial Temperature, Tape and Reel; Manufacturer: Microchip; PartNumber: 24LC00T/SN; DatasheetVersion: revG, Mar-2007; PackageVersion: revBB, Aug-2009; PackageReference: SOIC-SN8; PackageDescription: 8-Lead Plastic Small Outline (SN) - Narrow, 3.90mm Body [SOIC]; Supplier 1: Digi-Key; Supplier Part Number 1: 24LC00T/SN-ND; Supplier 2: Newark; Supplier Part Number 2: 92C7068; Supplier 3: Mouser; Supplier Part Number 3: 579-24LC00T/SN; Mounting Technology: Surface Mount; Code_JEDEC: MS-012; Code_IPC: SOIC127P600-8; ComponentLink1Description: Manufacturer URL; ComponentLink1URL: http://www.microchip.com/; ComponentLink2Description: Datasheet; ComponentLink2URL: http://ww1.microchip.com/downloads/en/DeviceDoc/21178G.pdf; ComponentLink3Description: Package Specification; ComponentLink3URL: http://www.microchip.com/stellent/groups/techpub_sg/documents/packagingspec/en012702.pdf
footprint SOIC-SN8_N (SOIC, 8-Leads, Body 4.9x3.8mm, Pitch 1.27mm, IPC Medium Density)
footprint SOIC-SN8_L (SOIC, 8-Leads, Body 4.9x3.8mm, Pitch 1.27mm, IPC High Density)
footprint SOIC-SN8_M (SOIC, 8-Leads, Body 4.9x3.8mm, Pitch 1.27mm, IPC Low Density)
pins: 1 NC, 2 NC, 3 NC, 4 VSS (power), 5 SDA (io), 6 SCL (in), 7 NC, 8 VCC (power)

## 24LC00T/ST
designator U?
128-Bit, 400kHz, 2.5V, I2C Bus Serial EEPROM, 8-Pin TSSOP, Commercial Temperature, Tape and Reel; Manufacturer: Microchip; PartNumber: 24LC00T/ST; DatasheetVersion: revG, Mar-2007; PackageVersion: revBB, Aug-2009; PackageReference: TSSOP-ST8; PackageDescription: 8-Lead Plastic Thin Shrink Small Outline (ST) - 4.4mm Body [TSSOP]; Supplier 1: Digi-Key; Supplier Part Number 1: 24LC00T/ST-ND; Supplier 2: Mouser; Supplier Part Number 2: 579-24LC00T/ST; Mounting Technology: Surface Mount; Code_JEDEC: MO-153; ComponentLink1Description: Manufacturer URL; ComponentLink1URL: http://www.microchip.com/; ComponentLink2Description: Datasheet; ComponentLink2URL: http://ww1.microchip.com/downloads/en/DeviceDoc/21178G.pdf; ComponentLink3Description: Package Specification; ComponentLink3URL: http://www.microchip.com/stellent/groups/techpub_sg/documents/packagingspec/en012702.pdf
footprint TSSOP-ST8_N (TSOP, 8-Leads, Body 3x4.4mm, Pitch 0.65mm, IPC Medium Density)
footprint TSSOP-ST8_L (TSOP, 8-Leads, Body 3x4.4mm, Pitch 0.65mm, IPC High Density)
footprint TSSOP-ST8_M (TSOP, 8-Leads, Body 3x4.4mm, Pitch 0.65mm, IPC Low Density)
pins: 1 NC, 2 NC, 3 NC, 4 VSS (power), 5 SDA (io), 6 SCL (in), 7 NC, 8 VCC (power)

## 24LC01B-E/MC
designator U?
1Kbit, 400kHz, 2.5V, I2C Serial EEPROM, 8-Pin DFN, Extended Temperature; Manufacturer: Microchip; PartNumber: 24LC01B-E/MC; DatasheetVersion: revJ, Jan-2009; PackageVersion: revBB, Aug-2009; PackageReference: DFN-MC8; PackageDescription: 8-Lead Plastic Dual Flat, No Lead Package (MC) - 2x3x0.9mm Body [DFN]; Mounting Technology: Surface Mount; ComponentLink1Description: Manufacturer URL; ComponentLink1URL: http://www.microchip.com/; ComponentLink2Description: Datasheet; ComponentLink2URL: http://ww1.microchip.com/downloads/en/DeviceDoc/21711J.pdf; ComponentLink3Description: Package Specification; ComponentLink3URL: http://www.microchip.com/stellent/groups/techpub_sg/documents/packagingspec/en012702.pdf
footprint DFN-MC8 (SON, 8-Leads, Body 2x3mm, Pitch 0.5mm, Microchip Recommended)
pins: 1 A0 (in), 2 A1 (in), 3 A2 (in), 4 VSS (power), 5 SDA (io), 6 SCL (in), 7 WP (in), 8 VCC (power), 9 DAP (power)

## 24LC01B-E/MS
designator U?
1Kbit, 400kHz, 2.5V, I2C Serial EEPROM, 8-Pin MSOP, Extended Temperature; Manufacturer: Microchip; PartNumber: 24LC01B-E/MS; DatasheetVersion: revJ, Jan-2009; PackageVersion: revBB, Aug-2009; PackageReference: MSOP-MS8; PackageDescription: 8-Lead Plastic Micro Small Outline Package (MS) [MSOP]; Supplier 1: Digi-Key; Supplier Part Number 1: 24LC01B-E/MS-ND; Supplier 2: Newark; Supplier Part Number 2: 98M5212; Supplier 3: Mouser; Supplier Part Number 3: 579-24LC01B-E/MS; Mounting Technology: Surface Mount; ComponentLink1Description: Manufacturer URL; ComponentLink1URL: http://www.microchip.com/; ComponentLink2Description: Datasheet; ComponentLink2URL: http://ww1.microchip.com/downloads/en/DeviceDoc/21711J.pdf; ComponentLink3Description: Package Specification; ComponentLink3URL: http://www.microchip.com/stellent/groups/techpub_sg/documents/packagingspec/en012702.pdf
footprint MSOP-MS8_N (TSOP, 8-Leads, Body 3x3mm, Pitch 0.65mm, IPC Medium Density)
footprint MSOP-MS8_L (TSOP, 8-Leads, Body 3x3mm, Pitch 0.65mm, IPC High Density)
footprint MSOP-MS8_M (TSOP, 8-Leads, Body 3x3mm, Pitch 0.65mm, IPC Low Density)
pins: 1 A0 (in), 2 A1 (in), 3 A2 (in), 4 VSS (power), 5 SDA (io), 6 SCL (in), 7 WP (in), 8 VCC (power)

## 24LC01B-E/P
designator U?
1Kbit, 400kHz, 2.5V, I2C Serial EEPROM, 8-Pin PDIP, Extended Temperature; Manufacturer: Microchip; PartNumber: 24LC01B-E/P; DatasheetVersion: revJ, Jan-2009; PackageVersion: revBB, Aug-2009; PackageReference: PDIP300-P8; PackageDescription: 8-Lead Plastic Dual In-Line (P) - 300 mil Body [PDIP]; Supplier 1: Digi-Key; Supplier Part Number 1: 24LC01B-E/P-ND; Supplier 2: Mouser; Supplier Part Number 2: 579-24LC01B-E/P; Mounting Technology: Through Hole; Code_JEDEC: MS-001; ComponentLink1Description: Manufacturer URL; ComponentLink1URL: http://www.microchip.com/; ComponentLink2Description: Datasheet; ComponentLink2URL: http://ww1.microchip.com/downloads/en/DeviceDoc/21711J.pdf; ComponentLink3Description: Package Specification; ComponentLink3URL: http://www.microchip.com/stellent/groups/techpub_sg/documents/packagingspec/en012702.pdf
footprint PDIP300-P8 (DIP, 8-Leads, Row Spacing 7.62mm, Pitch 2.54mm, Body 9.5x6.6mm)
pins: 1 A0 (in), 2 A1 (in), 3 A2 (in), 4 VSS (power), 5 SDA (io), 6 SCL (in), 7 WP (in), 8 VCC (power)

## 24LC01B-E/SN
designator U?
1Kbit, 400kHz, 2.5V, I2C Serial EEPROM, 8-Pin SOIC 150mil, Extended Temperature; Manufacturer: Microchip; PartNumber: 24LC01B-E/SN; DatasheetVersion: revJ, Jan-2009; PackageVersion: revBB, Aug-2009; PackageReference: SOIC-SN8; PackageDescription: 8-Lead Plastic Small Outline (SN) - Narrow, 3.90mm Body [SOIC]; Supplier 1: Digi-Key; Supplier Part Number 1: 24LC01B-E/SN-ND; Supplier 2: Newark; Supplier Part Number 2: 92C3482; Supplier 3: Mouser; Supplier Part Number 3: 579-24LC01B-E/SN; Mounting Technology: Surface Mount; Code_JEDEC: MS-012; Code_IPC: SOIC127P600-8; ComponentLink1Description: Manufacturer URL; ComponentLink1URL: http://www.microchip.com/; ComponentLink2Description: Datasheet; ComponentLink2URL: http://ww1.microchip.com/downloads/en/DeviceDoc/21711J.pdf; ComponentLink3Description: Package Specification; ComponentLink3URL: http://www.microchip.com/stellent/groups/techpub_sg/documents/packagingspec/en012702.pdf
footprint SOIC-SN8_N (SOIC, 8-Leads, Body 4.9x3.8mm, Pitch 1.27mm, IPC Medium Density)
footprint SOIC-SN8_L (SOIC, 8-Leads, Body 4.9x3.8mm, Pitch 1.27mm, IPC High Density)
footprint SOIC-SN8_M (SOIC, 8-Leads, Body 4.9x3.8mm, Pitch 1.27mm, IPC Low Density)
pins: 1 A0 (in), 2 A1 (in), 3 A2 (in), 4 VSS (power), 5 SDA (io), 6 SCL (in), 7 WP (in), 8 VCC (power)

## 24LC01B-E/ST
designator U?
1Kbit, 400kHz, 2.5V, I2C Serial EEPROM, 8-Pin TSSOP, Extended Temperature; Manufacturer: Microchip; PartNumber: 24LC01B-E/ST; DatasheetVersion: revJ, Jan-2009; PackageVersion: revBB, Aug-2009; PackageReference: TSSOP-ST8; PackageDescription: 8-Lead Plastic Thin Shrink Small Outline (ST) - 4.4mm Body [TSSOP]; Supplier 1: Digi-Key; Supplier Part Number 1: 24LC01B-E/ST-ND; Supplier 2: Mouser; Supplier Part Number 2: 579-24LC01B-E/ST; Mounting Technology: Surface Mount; Code_JEDEC: MO-153; ComponentLink1Description: Manufacturer URL; ComponentLink1URL: http://www.microchip.com/; ComponentLink2Description: Datasheet; ComponentLink2URL: http://ww1.microchip.com/downloads/en/DeviceDoc/21711J.pdf; ComponentLink3Description: Package Specification; ComponentLink3URL: http://www.microchip.com/stellent/groups/techpub_sg/documents/packagingspec/en012702.pdf
footprint TSSOP-ST8_N (TSOP, 8-Leads, Body 3x4.4mm, Pitch 0.65mm, IPC Medium Density)
footprint TSSOP-ST8_L (TSOP, 8-Leads, Body 3x4.4mm, Pitch 0.65mm, IPC High Density)
footprint TSSOP-ST8_M (TSOP, 8-Leads, Body 3x4.4mm, Pitch 0.65mm, IPC Low Density)
pins: 1 A0 (in), 2 A1 (in), 3 A2 (in), 4 VSS (power), 5 SDA (io), 6 SCL (in), 7 WP (in), 8 VCC (power)

## 24LC01B-I/MS
designator U?
1Kbit, 400kHz, 2.5V, I2C Serial EEPROM, 8-Pin MSOP, Industrial Temperature; Manufacturer: Microchip; PartNumber: 24LC01B-I/MS; DatasheetVersion: revJ, Jan-2009; PackageVersion: revBB, Aug-2009; PackageReference: MSOP-MS8; PackageDescription: 8-Lead Plastic Micro Small Outline Package (MS) [MSOP]; Supplier 1: Digi-Key; Supplier Part Number 1: 24LC01B-I/MS-ND; Supplier 2: Farnell; Supplier Part Number 2: 1331315; Supplier 3: Newark; Supplier Part Number 3: 96K4069; Supplier 4: Mouser; Supplier Part Number 4: 579-24LC01B-I/MS; Mounting Technology: Surface Mount; ComponentLink1Description: Manufacturer URL; ComponentLink1URL: http://www.microchip.com/; ComponentLink2Description: Datasheet; ComponentLink2URL: http://ww1.microchip.com/downloads/en/DeviceDoc/21711J.pdf; ComponentLink3Description: Package Specification; ComponentLink3URL: http://www.microchip.com/stellent/groups/techpub_sg/documents/packagingspec/en012702.pdf
footprint MSOP-MS8_N (TSOP, 8-Leads, Body 3x3mm, Pitch 0.65mm, IPC Medium Density)
footprint MSOP-MS8_L (TSOP, 8-Leads, Body 3x3mm, Pitch 0.65mm, IPC High Density)
footprint MSOP-MS8_M (TSOP, 8-Leads, Body 3x3mm, Pitch 0.65mm, IPC Low Density)
pins: 1 A0 (in), 2 A1 (in), 3 A2 (in), 4 VSS (power), 5 SDA (io), 6 SCL (in), 7 WP (in), 8 VCC (power)

## 24LC01B-I/P
designator U?
1Kbit, 400kHz, 2.5V, I2C Serial EEPROM, 8-Pin PDIP, Industrial Temperature; Manufacturer: Microchip; PartNumber: 24LC01B-I/P; DatasheetVersion: revJ, Jan-2009; PackageVersion: revBB, Aug-2009; PackageReference: PDIP300-P8; PackageDescription: 8-Lead Plastic Dual In-Line (P) - 300 mil Body [PDIP]; Supplier 1: Digi-Key; Supplier Part Number 1: 24LC01B-I/P-ND; Supplier 2: Farnell; Supplier Part Number 2: 1556159; Supplier 3: Newark; Supplier Part Number 3: 12C1988; Supplier 4: Mouser; Supplier Part Number 4: 579-24LC01B-I/P; Mounting Technology: Through Hole; Code_JEDEC: MS-001; ComponentLink1Description: Manufacturer URL; ComponentLink1URL: http://www.microchip.com/; ComponentLink2Description: Datasheet; ComponentLink2URL: http://ww1.microchip.com/downloads/en/DeviceDoc/21711J.pdf; ComponentLink3Description: Package Specification; ComponentLink3URL: http://www.microchip.com/stellent/groups/techpub_sg/documents/packagingspec/en012702.pdf
footprint PDIP300-P8 (DIP, 8-Leads, Row Spacing 7.62mm, Pitch 2.54mm, Body 9.5x6.6mm)
pins: 1 A0 (in), 2 A1 (in), 3 A2 (in), 4 VSS (power), 5 SDA (io), 6 SCL (in), 7 WP (in), 8 VCC (power)

## 24LC01B-I/SN
designator U?
1Kbit, 400kHz, 2.5V, I2C Serial EEPROM, 8-Pin SOIC 150mil, Industrial Temperature; Manufacturer: Microchip; PartNumber: 24LC01B-I/SN; DatasheetVersion: revJ, Jan-2009; PackageVersion: revBB, Aug-2009; PackageReference: SOIC-SN8; PackageDescription: 8-Lead Plastic Small Outline (SN) - Narrow, 3.90mm Body [SOIC]; Supplier 1: Digi-Key; Supplier Part Number 1: 24LC01B-I/SN-ND; Supplier 2: Farnell; Supplier Part Number 2: 1296569; Supplier 3: Newark; Supplier Part Number 3: 12C1989; Supplier 4: Mouser; Supplier Part Number 4: 579-24LC01B-I/SN; Mounting Technology: Surface Mount; Code_JEDEC: MS-012; Code_IPC: SOIC127P600-8; ComponentLink1Description: Manufacturer URL; ComponentLink1URL: http://www.microchip.com/; ComponentLink2Description: Datasheet; ComponentLink2URL: http://ww1.microchip.com/downloads/en/DeviceDoc/21711J.pdf; ComponentLink3Description: Package Specification; ComponentLink3URL: http://www.microchip.com/stellent/groups/techpub_sg/documents/packagingspec/en012702.pdf
footprint SOIC-SN8_N (SOIC, 8-Leads, Body 4.9x3.8mm, Pitch 1.27mm, IPC Medium Density)
footprint SOIC-SN8_L (SOIC, 8-Leads, Body 4.9x3.8mm, Pitch 1.27mm, IPC High Density)
footprint SOIC-SN8_M (SOIC, 8-Leads, Body 4.9x3.8mm, Pitch 1.27mm, IPC Low Density)
pins: 1 A0 (in), 2 A1 (in), 3 A2 (in), 4 VSS (power), 5 SDA (io), 6 SCL (in), 7 WP (in), 8 VCC (power)

## 24LC01B-I/ST
designator U?
1Kbit, 400kHz, 2.5V, I2C Serial EEPROM, 8-Pin TSSOP, Industrial Temperature; Manufacturer: Microchip; PartNumber: 24LC01B-I/ST; DatasheetVersion: revJ, Jan-2009; PackageVersion: revBB, Aug-2009; PackageReference: TSSOP-ST8; PackageDescription: 8-Lead Plastic Thin Shrink Small Outline (ST) - 4.4mm Body [TSSOP]; Supplier 1: Digi-Key; Supplier Part Number 1: 24LC01B-I/ST-ND; Supplier 2: Newark; Supplier Part Number 2: 12C1990; Supplier 3: Mouser; Supplier Part Number 3: 579-24LC01B-I/ST; Mounting Technology: Surface Mount; Code_JEDEC: MO-153; ComponentLink1Description: Manufacturer URL; ComponentLink1URL: http://www.microchip.com/; ComponentLink2Description: Datasheet; ComponentLink2URL: http://ww1.microchip.com/downloads/en/DeviceDoc/21711J.pdf; ComponentLink3Description: Package Specification; ComponentLink3URL: http://www.microchip.com/stellent/groups/techpub_sg/documents/packagingspec/en012702.pdf
footprint TSSOP-ST8_N (TSOP, 8-Leads, Body 3x4.4mm, Pitch 0.65mm, IPC Medium Density)
footprint TSSOP-ST8_L (TSOP, 8-Leads, Body 3x4.4mm, Pitch 0.65mm, IPC High Density)
footprint TSSOP-ST8_M (TSOP, 8-Leads, Body 3x4.4mm, Pitch 0.65mm, IPC Low Density)
pins: 1 A0 (in), 2 A1 (in), 3 A2 (in), 4 VSS (power), 5 SDA (io), 6 SCL (in), 7 WP (in), 8 VCC (power)

## 24LC01B/P
designator U?
1Kbit, 400kHz, 2.5V, I2C Serial EEPROM, 8-Pin PDIP, Commercial Temperature; Manufacturer: Microchip; PartNumber: 24LC01B/P; DatasheetVersion: revJ, Jan-2009; PackageVersion: revBB, Aug-2009; PackageReference: PDIP300-P8; PackageDescription: 8-Lead Plastic Dual In-Line (P) - 300 mil Body [PDIP]; Supplier 1: Digi-Key; Supplier Part Number 1: 24LC01B/P-ND; Supplier 2: Farnell; Supplier Part Number 2: 1200025; Supplier 3: Newark; Supplier Part Number 3: 12C1991; Supplier 4: Mouser; Supplier Part Number 4: 579-24LC01BP; Mounting Technology: Through Hole; Code_JEDEC: MS-001; ComponentLink1Description: Manufacturer URL; ComponentLink1URL: http://www.microchip.com/; ComponentLink2Description: Datasheet; ComponentLink2URL: http://ww1.microchip.com/downloads/en/DeviceDoc/21711J.pdf; ComponentLink3Description: Package Specification; ComponentLink3URL: http://www.microchip.com/stellent/groups/techpub_sg/documents/packagingspec/en012702.pdf
footprint PDIP300-P8 (DIP, 8-Leads, Row Spacing 7.62mm, Pitch 2.54mm, Body 9.5x6.6mm)
pins: 1 A0 (in), 2 A1 (in), 3 A2 (in), 4 VSS (power), 5 SDA (io), 6 SCL (in), 7 WP (in), 8 VCC (power)